# Altium schematic symbol library TLV9051IDCKR.SchLib: 2 symbols
Pins are listed as number, name and electrical type; pins without a type are passive.

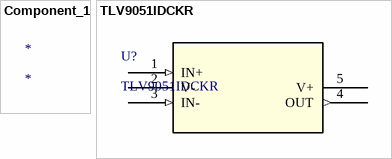
[diagram p0: symbols Component_1 to TLV9051IDCKR]

## Component_1
designator *

## TLV9051IDCKR
designator U?
No Description Available; Mfr_Name: Texas Instruments; Copyright: Copyright (C) 2023 Ultra Librarian. All rights reserved.; Manufacturer_Part_Number: TLV9051IDCKR; RefDes: RefDes; Type: DEV
footprint SOT_1IDCKR_TEX
pins: 1 IN+ (in), 2 V- (power), 3 IN- (in), 4 OUT (out), 5 V+ (power)